# EAGLE library part 3611BS (library Display)
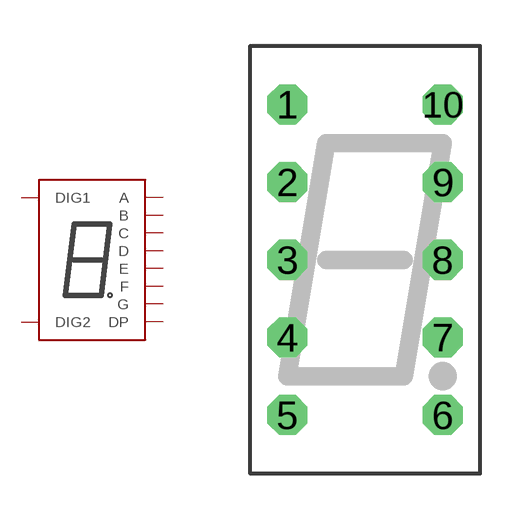
[diagram p13: symbol with the pads of TN_BS_1_0.36INCH; footprint TN_BS_1_0.36INCH]

Designator prefix -

## 3611BS  [TN_BS_1_0.36INCH]
1  DIG1
2  F
3  G
4  E
5  D
6  DIG2
7  DP
8  C
9  B
10  A

## Footprint TN_BS_1_0.36INCH (pad centres in mm)
drill 0.8 octagon: 1 -2.54,5.08; 2 -2.54,2.54; 3 -2.54,0; 4 -2.54,-2.54; 5 -2.54,-5.08; 6 2.54,-5.08; 7 2.54,-2.54; 8 2.54,0; 9 2.54,2.54; 10 2.54,5.08